# Altium integrated library Integrated_Library1.IntLib: 1 symbol
Pins are listed as number, name and electrical type; pins without a type are passive.

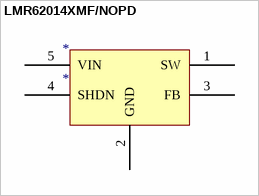
[diagram p0: symbol LMR62014XMF/NOPD]

## LMR62014XMF/NOPD
designator *
pins: 1 SW, 2 GND, 3 FB, 4 SHDN, 5 VIN